# Altium schematic symbol library CDCLVP1102.SchLib: 1 symbol
Pins are listed as number, name and electrical type; pins without a type are passive.

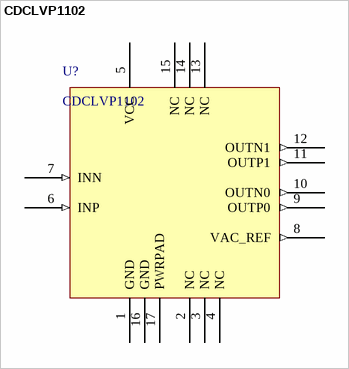
[diagram p0: symbol CDCLVP1102]

## CDCLVP1102
designator U?
pins: 1 GND (power), 2 NC, 3 NC, 4 NC, 5 VCC (power), 6 INP (in), 7 INN (in), 8 VAC_REF (out), 9 OUTP0 (out), 10 OUTN0 (out), 11 OUTP1 (out), 12 OUTN1 (out), 13 NC, 14 NC, 15 NC, 16 GND (power), 17 PWRPAD (power)